# Altium schematic symbol library Schlib.SchLib: 33 symbols
Pins are listed as number, name and electrical type; pins without a type are passive.

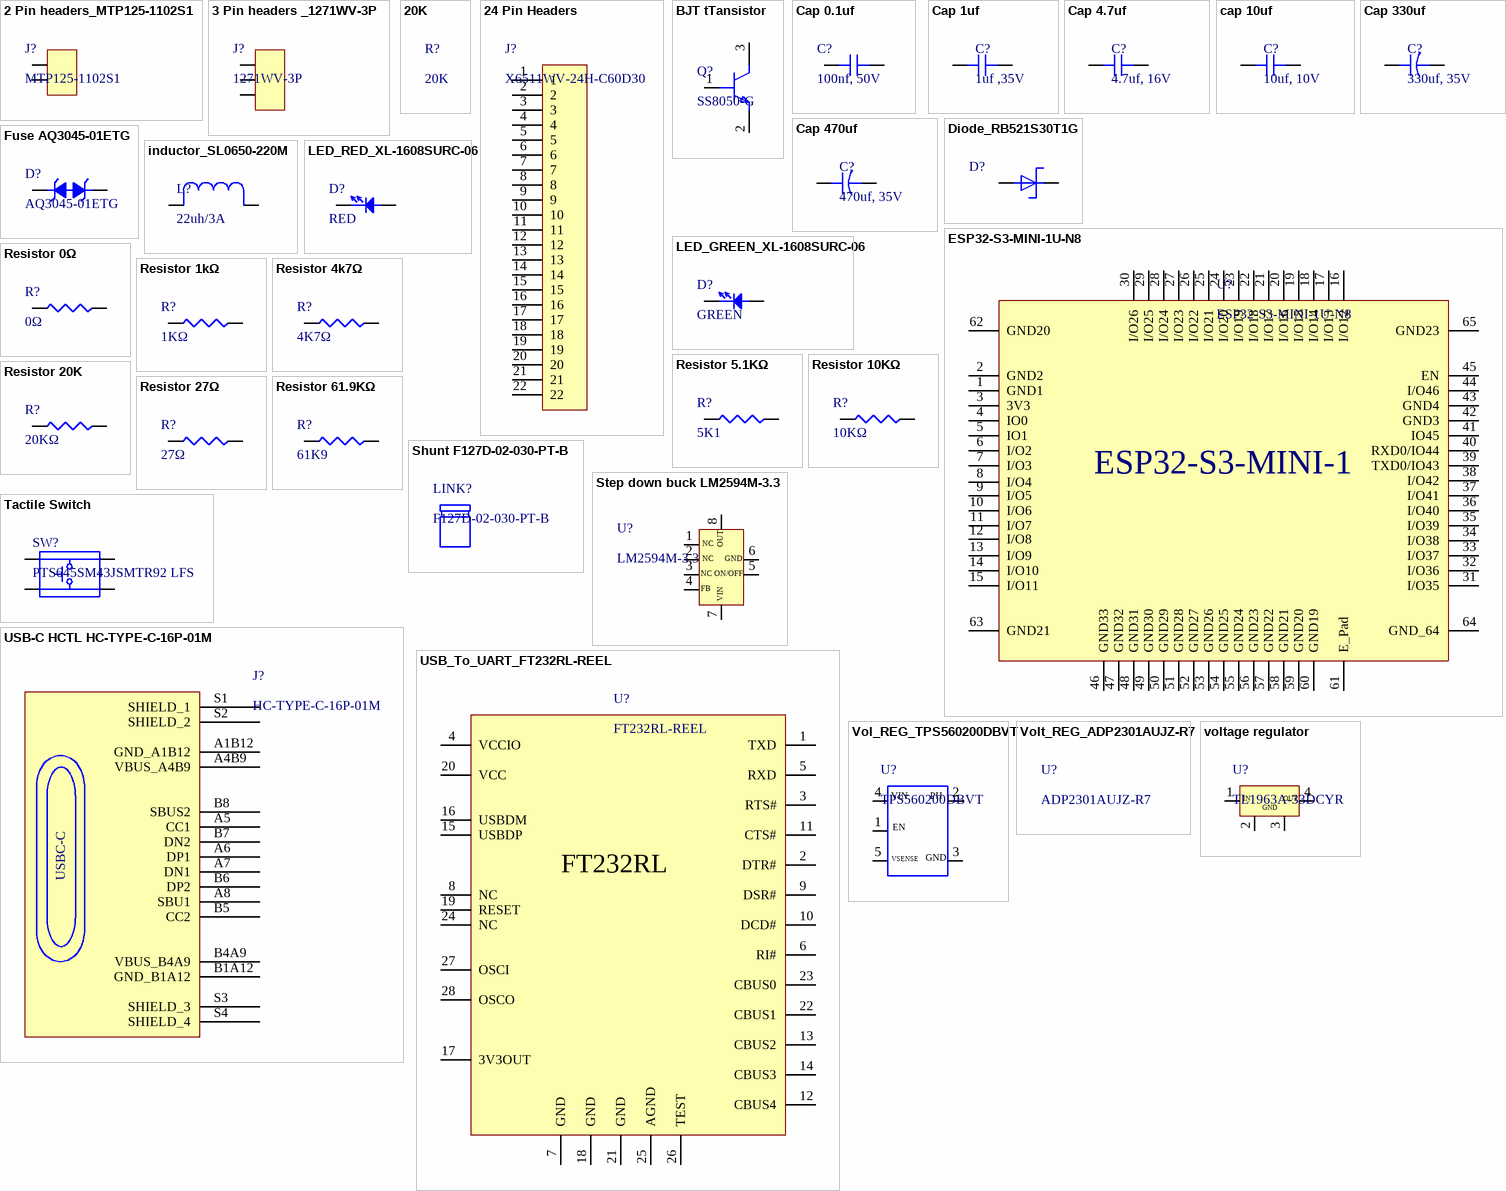
[diagram p0: symbols 2 Pin headers_MTP125-1102S1 to voltage regulator]

## 2 Pin headers_MTP125-1102S1
designator J?, comment MTP125-1102S1
Direct Insert Policy 2.5mm 2P 6mm -40℃~+105℃ 3mm 2.54mm Single Row Black Brass 1x2P Plugin,P=2.54mm Pin Headers ROHS; Manufacturer: MINTRON; Supplier part number: C358684; Manufacturer part number: MTP125-1102S1; Supplier: LCSC
footprint 2pin_headers
pins: 1, 2

## 3 Pin headers _1271WV-3P
designator J?, comment 1271WV-3P
Gold Direct Insert Policy 1mm 3P 4mm -40℃~+105℃ 2.2mm 1.27mm Single Row 1x3P Plugin,P=1.27mm Pin Headers ROHS; Manufacturer: HanElectricity; Supplier part number: C7470079; Manufacturer part number: 1271WV-3P; Supplier: LCSC
footprint 3 PIN_HEADERS
pins: 1, 2, 3

## 20K
designator R?
RC0402FR-0720KL

## 24 Pin Headers
designator J?, comment X6511WV-24H-C60D30
Gold 250V 3A Policy 2.5mm 24P 260℃ -40℃~+105℃ 2.54mm Single Row Black Brass 2.54mm 1x24P Plugin,P=2.54mm Pin Headers ROHS; Manufacturer: XKB Connection; Supplier part number: C725956; Manufacturer part number: X6511WV-24H-C60D30; Supplier: LCSC
footprint 22 PIN HEADERS
pins: 1, 2, 3, 4, 5, 6, 7, 8, 9, 10, 11, 12, 13, 14, 15, 16, 17, 18, 19, 20, 21, 22

## BJT tTansistor
designator Q?, comment SS8050-G
25V 300mW 120@100mA,1V 1.5A NPN SOT-23 Bipolar (BJT) ROHS; Manufacturer: Jiangsu Changjing Electronics Technology Co., Ltd.; Manufacturer Part Number: SS8050-G(RANGE:120-200); Supplier part number: C164886; Supplier: LCSC
footprint BJT Transistor_SS8050-G(RANGE:120-200)
pins: 1, 2, 3

## Cap 0.1uf
designator C?, comment 100nf, 50V
Ceramic Capacitor, 50V, 0.1uF, Surface Mount; Manufacturer: Samsung; Manufacturer Part Number: CL05B104KB54PNC; Supplier part number: C307331; Supplier: LCSC
footprint Capacitor
pins: 1, 2

## Cap 1uf
designator C?, comment 1uf ,35V
Ceramic Capacitor, 35V, 1uF, Surface Mount; Manufacturer: Samsug Electro-Mechanics; Manufacturer part number: CL05A105KL5NRNC; Supplier part number: C307413; Supplier: LCSC
footprint Capacitor
pins: 1, 2

## Cap 4.7uf
designator C?, comment 4.7uf, 16V
16V 4.7uF X5R ±20% 0402 Multilayer Ceramic Capacitors MLCC - SMD/SMT ROHS; Manufacturer: Samsung Electro-Mechanics; Manufacturer part number: CL05A475MO5NUNC; Supplier part number: C318563; Supplier: LCSC
footprint Capacitor
pins: 1, 2

## cap 10uf
designator C?, comment 10uf, 10V
Ceramic Capacitor, 10V, 10uF, Surface Mount; Manufacturer: Samsug Electro-Mechanics; Manufacturer part number: CL05A106MP8NUB8; Supplier part number: C307415; Supplier: LCSC
footprint Capacitor
pins: 1, 2

## Cap 330uf
designator C?, comment 330uf, 35V
SMD,D5xL6.1mm Hybrid Aluminum Electrolytic Capacitors ROHS; Manufacturer: PANASONIC; Manufacturer part number: EEHZK1V330R; Supplier part number: C542472; Supplier: LCSC
footprint Capacitor big
pins: 1, 2

## Cap 470uf
designator C?, comment 470uf, 35V
470uF 35V 850mA@100kHz 80mΩ@100kHz ±20% SMD Aluminum Electrolytic Capacitors - SMD ROHS; Manufacturer: PANASONIC; Manufacturer part number: EEEFN1V271UP; Supplier part number: C494845; Supplier: LCSC
footprint Capacitor big
pins: 1, 2

## Diode_RB521S30T1G
designator D?, comment RB521S30T1G  (value not drawn)
30V 500mV@200mA 200mA SOD-523 Schottky Diodes ROH; Manufacturer: onsemi; Supplier part number: C145179; Manufacturer part number: RB521S30T1G; Supplier: LCSC
footprint DIODE
pins: 1, 2

## ESP32-S3-MINI-1U-N8
designator U?
Esp32-S3-mini-1 board; Manufacturer: Espressif Systems; Manufacturer Part Number: ESP32-S3-MINI-1U-N8; Supplier part number: C2980299; Supplier: LCSC
footprint ESP32
pins: 1 GND1, 2 GND2, 3 3V3, 4 IO0, 5 IO1, 6 I/O2, 7 I/O3, 8 I/O4, 9 I/O5, 10 I/O6, 11 I/O7, 12 I/O8, 13 I/O9, 14 I/O10, 15 I/O11, 16 I/O12, 17 I/O13, 18 I/O14, 19 I/O15, 20 I/O16, 21 I/O17, 22 I/O18, 23 I/O19, 24 I/O20, 25 I/O21, 26 I/O22, 27 I/O23, 28 I/O24, 29 I/O25, 30 I/O26, 31 I/O35, 32 I/O36, 33 I/O37, 34 I/O38, 35 I/O39, 36 I/O40, 37 I/O41, 38 I/O42, 39 TXD0/IO43, 40 RXD0/IO44, 41 IO45, 42 GND3, 43 GND4, 44 I/O46, 45 EN, 46 GND33, 47 GND32, 48 GND31, 49 GND30, 50 GND29, 51 GND28, 52 GND27, 53 GND26, 54 GND25, 55 GND24, 56 GND23, 57 GND22, 58 GND21, 59 GND20, 60 GND19, 61 E_Pad, 62 GND20, 63 GND21, 64 GND_64, 65 GND23
text: ESP32-S3-MINI-1

## Fuse AQ3045-01ETG
designator D?, comment AQ3045-01ETG
3A@8/20us 12V 40W 6.8V 5.3V SOD-882 ESD and Surge Protection (TVS/ESD) ROHS; Manufacturer: Littelfuse; Supplier part number: C3710326; Manufacturer part number: AQ3045-01ETG; Supplier: LCSC
footprint FUSE_AQ3045-01ETG - duplicate
pins: 1, 2

## inductor_SL0650-220M
designator L?, comment 22uh/3A
3A 22uH ±20% 5A SMD,7.1x6.6mm Inductors (SMD) ROHS; Manufacturer: TECHFUSE; Manufacturer part number: SL0650-220M; Supplier part number: C22463831; Supplier: LCSC
footprint INDUCTOR
pins: 1, 2

## LED_GREEN_XL-1608SURC-06
designator D?, comment GREEN
20mA 1000mcd Green Lens -20℃~+85℃ Positive Stick Blue 120° 70mW 3.3V 0402 LED Indication - Discrete ROHS; Manufacturer: XINGLIGHT; Manufacturer part number: XL-1608SURC-06; Supplier part number: C965797; Supplier: LCSC
footprint LED_GREEN
pins: 1, 2

## LED_RED_XL-1608SURC-06
designator D?, comment RED
20mA 330mcd Colorless transparent lens -20℃~+85℃ Positive Stick 620nm~630nm Red 120° 50mW 2.3V 0603 LED Indication - Discrete ROHS; Manufacturer: XINGLIGHT; Manufacturer part number: XL-1608SURC-06; Supplier part number: C965799; Supplier: LCSC
footprint LED_RED
pins: 1, 2

## Resistor 0Ω
designator R?, comment 0Ω
62.5mW Thick Film Resistors 50V ±5% 0Ω 0402 Chip Resistor - Surface Mount ROHS; Manufacturer: YAGEO; Manufacturer part number: AC0402JR-070RL; Supplier part number: C138289; Supplier: LCSC
footprint Resistors
pins: 1, 2

## Resistor 1kΩ
designator R?, comment 1KΩ
62.5mW Thin Film Resistor 50V ±50ppm/℃ ±1% 1kΩ 0402 Chip Resistor - Surface Mount ROHS; Manufacturer: YAGEO; Manufacturer part number: RT0402FRE071KL; Supplier part number: C136974; Supplier: LCSC
footprint Resistors
pins: 1, 2

## Resistor 4k7Ω
designator R?, comment 4K7Ω
62.5mW Thick Film Resistors 50V ±100ppm/℃ ±1% 4.7kΩ 0402 Chip Resistor - Surface Mount ROHS; Manufacturer: YAGEO; Manufacturer part number: RC0402FR-074K7L; Supplier part number: C105871; Supplier: LCSC
footprint Resistors
pins: 1, 2

## Resistor 5.1KΩ
designator R?, comment 5K1
125mW Thin Film Resistor ±50ppm/℃ ±1% 5.1kΩ 0805 Chip Resistor - Surface Mount ROH; Manufacturer part number: RT0805FRE075K1L; Manufacturer: YAGEO; Supplier part number: C869519; Supplier: LCSC
footprint Resistors
pins: 1, 2

## Resistor 10KΩ
designator R?, comment 10KΩ
250mW Thin Film Resistor ±50ppm/℃ ±1% 10kΩ 1206 Chip Resistor - Surface Mount ROHS; Manufacturer: YAGEO; Manufacturer part number: RT1206FRE0710KL; Supplier part number: C862226; Supplier: LCSC
footprint Resistors
pins: 1, 2

## Resistor 20K
designator R?, comment 20KΩ
62.5mW Thick Film Resistors 50V ±100ppm/℃ ±1% 20kΩ 0402 Chip Resistor - Surface Mount ROHS; Manufacturer: YAGEO; Manufacturer part number: RC0402FR-0720KL; Supplier: LCSC; Supplier part number: C93942
footprint Resistors
pins: 1, 2

## Resistor 27Ω
designator R?, comment 27Ω
125mW Thin Film Resistor ±25ppm/℃ ±1% 27Ω 0805 Chip Resistor - Surface Mount ROHS; Manufacturer part number: RT0805FRD0727RL; Manufacturer: YAGEO; Supplier part number: C869052; Supplier: LCSC
footprint Resistors
pins: 1, 2

## Resistor 61.9KΩ
designator R?, comment 61K9
62.5mW Thick Film Resistors 50V ±100ppm/℃ ±1% 61.9kΩ 0402 Chip Resistor - Surface Mount ROHS; Manufacturer: YAGEO; Manufacturer part number: RC0402FR-0761K9L; Supplier: LCSC; Supplier part number: C327331
footprint Resistors
pins: 1, 2

## Shunt F127D-02-030-PT-B
designator LINK?, comment F127D-02-030-PT-B  (mechanical)
Top sealing 1.27mm P=1.27mm Shunts, Jumpers ROHS; Manufacturer: XFCN; Supplier part number: C2758458; Manufacturer Part Number: F127D-02-030-PT-B; Supplier: LCSC

## Step down buck LM2594M-3.3
designator U?, comment LM2594M-3.3
Step-down type Fixed 3.3V 4.5V~40V 1.5A SOP-8 DC-DC Converters ROHS; Manufacturer: UMW(Youtai Semiconductor Co., Ltd.); Supplier part number: C3029048; Manufacturer part number: LM2594M-3.3; Supplier: LCSC
footprint buck
pins: 1, 2, 3, 4, 5, 6, 7, 8
text: OUT; NC; GND; ON/OFF; FB; VIN

## Tactile Switch
designator SW?, comment PTS645SM43JSMTR92 LFS
Round Button 50mA Standing paste SPST - normally open 160gf 12V SMD,6x6mm Tactile Switches ROHS; Manufacturer: C&K; Supplier part number: C2801847; Manufacturer part number: PTS645SM43JSMTR92 LFS; Supplier: LCSC
footprint Tactical Switch_PTS645SM43JSMTR92-LFS_C2801847
pins: 1, 2, 3, 4

## USB-C HCTL HC-TYPE-C-16P-01M
designator J?, comment HC-TYPE-C-16P-01M
5A 1 260℃ Horizontal attachment 16P Female -30℃~+85℃ Gold Copper Type-C SMD USB Connectors ROHS; Manufacturer: HCTL; Supplier part number: C2894899; Manufacturer part number: HC-TYPE-C-16P-01M; Supplier: LCSC
footprint USB C_HC-TYPE-C-16P-01M
pins: A1B12 GND_A1B12, A4B9 VBUS_A4B9, A5 CC1, A6 DP1, A7 DN1, A8 SBU1, B1A12 GND_B1A12, B4A9 VBUS_B4A9, B5 CC2, B6 DP2, B7 DN2, B8 SBUS2, S1 SHIELD_1, S2 SHIELD_2, S3 SHIELD_3, S4 SHIELD_4
text: USBC-C

## USB_To_UART_FT232RL-REEL
designator U?, comment FT232RL-REEL
USB to UART UART SSOP-28-208mil USB Converters ROHS; Manufacturer: LTDI; Supplier part number: C8690; Manufacturer part number: FT232RL-REEL; Supplier: LCSC
footprint USB_TO_UART_FT232RL-REEL
pins: 1 TXD, 2 DTR#, 3 RTS#, 4 VCCIO, 5 RXD, 6 RI#, 7 GND, 8 NC, 9 DSR#, 10 DCD#, 11 CTS#, 12 CBUS4, 13 CBUS2, 14 CBUS3, 15 USBDP, 16 USBDM, 17 3V3OUT, 18 GND, 19 RESET, 20 VCC, 21 GND, 22 CBUS1, 23 CBUS0, 24 NC, 25 AGND, 26 TEST, 27 OSCI, 28 OSCO
text: FT232RL

## Vol_REG_TPS560200DBVT
designator U?, comment TPS560200DBVT
Boost type Adjustable 2A 3V~20V 2.7V~14V SOT-23-5 DC-DC Converters ROHS; Manufacturer: Texas Instruments; Supplier: LCSC; Supplier part number: C2070785; Manufacturer part number: TPS560200DBVT
footprint VOLt_REG_LMR62014XMFXNOPB
pins: 1 VIN, 2, 3, 4, 5 SW
text: PH; EN; VSENSE; GND

## Volt_REG_ADP2301AUJZ-R7
designator U?, comment ADP2301AUJZ-R7
Analog Devices; Supplier part number: C143872; Manufacturer: Analog Devices; Manufacturer part number: ADP2301AUJZ-R7; Supplier: LCSC

## voltage regulator
designator U?, comment TL1963A-33DCYR
63dB@(120Hz) 1.5A Fixed 3.3V Positive electrode 20V SOT-223 Voltage Regulators - Linear, Low Drop Out (LDO) Regulators ROHS; Manufacturer: Texas Instruments; Supplier part number: C181262; Manufacturer part number: TL1963A-33DCYR; Supplier: LCSC
footprint Voltage regulator_TL1963A-33DCYR
pins: 1 IN, 2, 3, 4 OUT
text: GND